# EAGLE library part TLV76733DRVR (library TLV76733DRVR)
Check prices <https://pricing.snapeda.com/parts/TLV76733DRVR/Texas%20Instruments/view-part?ref=eda>
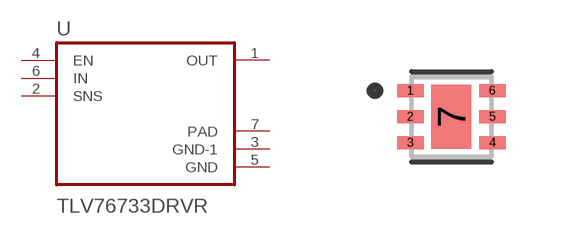
[diagram p0: symbol with the pads of SON65P200X200X80-7N; footprint SON65P200X200X80-7N]

Designator prefix U

## TLV76733DRVR (AVAILABILITY: In Stock; DESCRIPTION: 1-A, 16-V, high-PSRR, high-accuracy, low-dropout voltage regulator with enable 6-WSON -40 to 125; MF: Texas Instruments; MP: TLV76733DRVR; PACKAGE: WSON-6 Texas Instruments; PRICE: None; PURCHASE-URL: https://pricing.snapeda.com/search/part/TLV76733DRVR/?ref=eda)  [SON65P200X200X80-7N]
1  OUT  out
2  SNS  in
3  GND-1  pwr
4  EN  in
5  GND  pwr
6  IN  in
7  PAD

## Footprint SON65P200X200X80-7N (pad centres in mm)
smd 0.66 x 0.32: 1 -1.025,0.65; 2 -1.025,0; 3 -1.025,-0.65; 4 1.025,-0.65; 5 1.025,0; 6 1.025,0.65
smd 1 x 1.6: 7 0,0